# Altium footprint library 2020-02-13_00-03-41.PcbLib: 2 footprints
Each footprint in its own frame and in the unit in brackets; x right, y up, seen from the top. Pads: shape width x height; smd on the part's side, far side on the other; paste and mask are expansions set on the pad; w line width, h text height; cw(c..) or ccw(c..) is an arc to the next point about the centre after c.
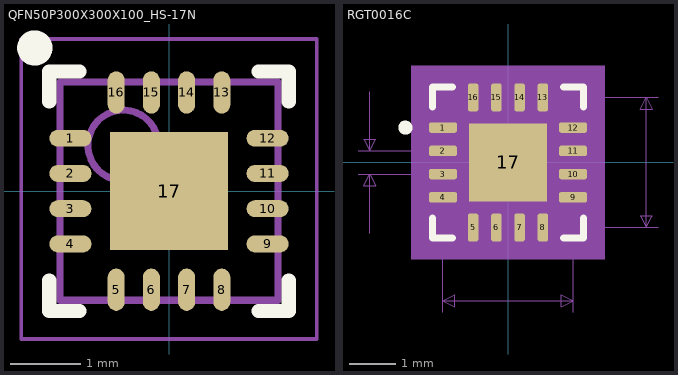
[diagram p0: the footprints below, top view; thin cyan lines are the x and y axes]

## QFN50P300X300X100_HS-17N [mm] "QFN, 16-Leads, Body 3.00x3.00mm, Pitch 0.50mm, Thermal Pad 1.68x1.68mm, IPC Medium Density"
height 1
pads (17):
  oval 0.6x0.24 smd: 1(-1.4,0.75) 2(-1.4,0.25) 3(-1.4,-0.25) 4(-1.4,-0.75) 9(1.4,-0.75) 10(1.4,-0.25) 11(1.4,0.25) 12(1.4,0.75)
  oval 0.24x0.6 smd: 5(-0.75,-1.4) 6(-0.25,-1.4) 7(0.25,-1.4) 8(0.75,-1.4) 13(0.75,1.4) 14(0.25,1.4) 15(-0.25,1.4) 16(-0.75,1.4)
  rect 1.68x1.68 smd: 17(0,0)
Top Overlay:
  circle w0.3: c-1.905,2.032 r0.1
  lines w0.2: -1.7,-1.27 -1.7,-1.7 -1.27,-1.7 ; -1.7,1.27 -1.7,1.7 -1.27,1.7 ; 1.27,-1.7 1.7,-1.7 1.7,-1.27 ; 1.27,1.7 1.7,1.7 1.7,1.27
Mechanical 13:
  circle w0.1: c-0.65,0.65 r0.5
  lines w0.1: -1.55,-1.55 -1.55,1.55 1.55,1.55 1.55,-1.55 -1.55,-1.55
Mechanical 15:
  lines w0.05: -2.1,-2.1 -2.1,2.159 2.1,2.159 2.1,-2.1 -2.1,-2.1
  lines w0.1: -0.5,0 0.5,0 ; 0,-0.5 0,0.5
3D body "QFN50P300X300X100_HS-17N.step": height 1, standoff 0, extent -1.551,-1.551 1.551,1.551

## RGT0016C [mil]
pads (17):
  rrect50% 24x9 smd paste+0 mask+2: 1(-55.12,29.53) 2(-55.12,9.84) 3(-55.12,-9.84) 4(-55.12,-29.53) 9(55.12,-29.53) 10(55.12,-9.84) 11(55.12,9.84) 12(55.12,29.53)
  rrect50% 9x24 smd paste+0 mask+2: 5(-29.53,-55.12) 6(-9.84,-55.12) 7(9.84,-55.12) 8(29.53,-55.12) 13(29.53,55.12) 14(9.84,55.12) 15(-9.84,55.12) 16(-29.53,55.12)
  rect 66x66 smd paste-32.5 mask+0: 17(0,0)
Top Overlay:
  circle w6: c-86.96,29.53 r3
  lines w6: -64,-47.13 -64,-64 -47.13,-64 ; -64,47.13 -64,64 -47.13,64 ; 47.13,-64 64,-64 64,-47.13 ; 47.13,64 64,64 64,47.13
Top Paste:
  region: 30.05,-19.44 25,-19.44 19.44,-25 19.44,-30.05 30.05,-30.05
  region: 30.05,11.56 25,11.56 19.44,6 19.44,-6 25,-11.56 30.05,-11.56
  region: 30.05,30.05 19.44,30.05 19.44,25 25,19.44 30.05,19.44
  region: 6,-19.44 -6,-19.44 -11.56,-25 -11.56,-30.05 11.56,-30.05 11.56,-25
  region: 6,11.56 -6,11.56 -11.56,6 -11.56,-6 -6,-11.56 6,-11.56 11.56,-6 11.56,6
  region: 11.56,30.05 -11.56,30.05 -11.56,25 -6,19.44 6,19.44 11.56,25
  region: -25,-19.44 -30.05,-19.44 -30.05,-30.05 -19.44,-30.05 -19.44,-25
  region: -25,11.56 -30.05,11.56 -30.05,-11.56 -25,-11.56 -19.44,-6 -19.44,6
  region: -19.44,30.05 -30.05,30.05 -30.05,19.44 -25,19.44 -19.44,25
Top Solder:
  region: 23.37,-35.5 23.37,35.5 35.5,35.5 35.5,-35.5
  region: 7.63,-35.5 7.63,35.5 -7.63,35.5 -7.63,-35.5
  region: -35.5,-35.5 -35.5,35.5 -23.37,35.5 -23.37,-35.5
  region: -35.5,-35.5 -35.5,-23.37 35.5,-23.37 35.5,-35.5
  region: -35.5,-7.63 -35.5,7.63 35.5,7.63 35.5,-7.63
  region: -35.5,23.37 -35.5,35.5 35.5,35.5 35.5,23.37
Mechanical 5:
  region: -82.12,82.12 82.12,82.12 82.12,-82.12 -82.12,-82.12
Mechanical 7:
  lines w1: -127.12,-9.84 -77.12,-9.84 ; -127.12,9.84 -77.12,9.84 ; -117.12,-59.84 -117.12,-9.84 ; -117.12,59.84 -117.12,9.84 ; -55.12,-127.12 -55.12,-44.03 ; 38.53,-55.12 127.12,-55.12 ; 38.53,55.12 127.12,55.12 ; 55.12,-127.12 55.12,-44.03 ; -117.12,-9.84 -122.12,-19.84 -112.12,-19.84 -117.12,-9.84 ; -117.12,9.84 -122.12,19.84 -112.12,19.84 -117.12,9.84 ; -55.12,-117.12 -45.12,-112.12 -45.12,-122.12 -55.12,-117.12 ; -55.12,-117.12 55.12,-117.12 ; 55.12,-117.12 45.12,-112.12 45.12,-122.12 55.12,-117.12 ; 117.12,-55.12 122.12,-45.12 112.12,-45.12 117.12,-55.12 ; 117.12,-55.12 117.12,55.12 ; 117.12,55.12 122.12,45.12 112.12,45.12 117.12,55.12
  text "Alt 2 Padstyle: OX90Y60D30P" at -337.5,-567.12 h50
  text "Alt 1 Padstyle: OX60Y90D30P" at -337.5,-507.12 h50
  text "Via Padstyle: EX8Y8D8P" at -275,-447.12 h50
  text "Heat Tab Padstyle: RX66Y66D0T" at -362.5,-387.12 h50
  text "Default Padstyle: EX24Y9D0T" at -337.5,-327.12 h50
Mechanical 13:
  circle w0: c-53.12,29.53 r3
  lines w1: -59,9 -9,59 ; -59,-59 -59,59 59,59 59,-59 -59,-59
Mechanical 15:
  region: -49.53,-69 -69,-69 -69,-49.53 -77.12,-49.53 -77.12,49.53 -69,49.53 -69,69 -49.53,69 -49.53,77.12 49.53,77.12 49.53,69 69,69 69,49.53 77.12,49.53 77.12,-49.53 69,-49.53 69,-69 49.53,-69 49.53,-77.12 -49.53,-77.12
  lines w6: -77.12,-49.53 -77.12,49.53 -69,49.53 -69,69 -49.53,69 -49.53,77.12 49.53,77.12 49.53,69 69,69 69,49.53 77.12,49.53 77.12,-49.53 69,-49.53 69,-69 49.53,-69 49.53,-77.12 -49.53,-77.12 -49.53,-69 -69,-69 -69,-49.53 -77.12,-49.53
Mechanical 16:
  circle w0: c-22.86,22.86 r4
  circle w0: c22.86,22.86 r4
  circle w0: c22.86,-22.86 r4
  circle w0: c-22.86,-22.81 r4
  circle w0: c0.01,0.01 r4
3D body: height 10, standoff 0, extent 0,0 10,10